# Altium footprint library H_BRIDGE_Driver.PcbLib: 6 footprints
Each footprint in its own frame and in the unit in brackets; x right, y up, seen from the top. Pads: shape width x height; smd on the part's side, far side on the other; paste and mask are expansions set on the pad; w line width, h text height; cw(c..) or ccw(c..) is an arc to the next point about the centre after c.
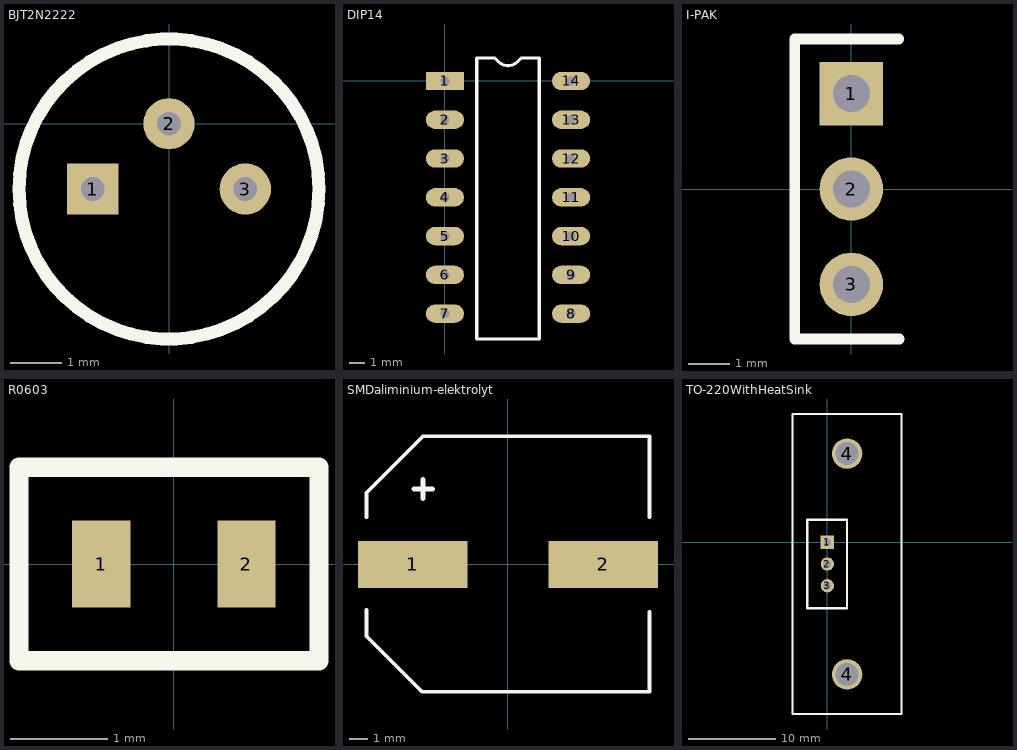
[diagram p0: the footprints below, top view; thin cyan lines are the x and y axes]

## BJT2N2222 [mm]
pads (3):
  rect 1x1 hole 0.46: 1(-1.485,-1.27)
  round 1 hole 0.46: 2(0,0) 3(1.485,-1.27)
Top Overlay:
  circle w0.254: c0,-1.27 r2.92
3D body "User Library-TO-39_2N2904.step": height 6.5, standoff -3, extent -4.485,-5.97 4.515,3.03

## DIP14 [mm]
pads (14):
  rect 2.5x1.2 hole 0.6: 1(0,0)
  oval 2.5x1.2 hole 0.6: 2(0,-2.54) 3(0,-5.08) 4(0,-7.62) 5(0,-10.16) 6(0,-12.7) 7(0,-15.24) 8(8.26,-15.24) 9(8.26,-12.7) 10(8.26,-10.16) 11(8.26,-7.62) 12(8.26,-5.08) 13(8.26,-2.54) 14(8.26,0)
Top Overlay:
  lines w0.2: 2.085,-16.9 3.107,-16.9 5.153,-16.9 6.175,-16.9 6.175,1.5 4.995,1.5 4.765,1.27 cw(c4.13,1.873) 3.495,1.27 3.265,1.5 2.085,1.5 2.085,-16.9
3D body "CircuitWorks-DIP14.step": height 4.19, standoff -2.67, extent 0.3,-17.225 8.174,1.825

## I-PAK [mil]
pads (3):
  rect 60x60 hole 35.04: 1(0,90.16)
  round 60 hole 35.04: 2(0,0) 3(0,-90.16)
Top Overlay:
  lines w10: -53.54,-141.73 -53.54,141.73 44.88,141.73 ; -53.15,-141.73 45.28,-141.73
3D body "User Library-TO-251AA(IPak).step": height 372.44, standoff -154.33, extent -35.43,-129.92 55.12,129.92

## R0603 [mm]
pads (2):
  rect 0.6x0.9 smd: 1(-0.75,0) 2(0.75,0)
Top Overlay:
  lines w0.2: -1.6,-1 -1.6,1 1.5,1 1.5,-1 -1.6,-1
3D body "CircuitWorks-RESISTOR 0603.step": height 0.48, standoff -0.03, extent -0.8,-0.43 0.8,0.43

## SMDaliminium-elektrolyt [mm]
pads (2):
  rect 5.8x2.5 smd: 1(-5.05,0) 2(5.05,0)
Top Overlay:
  lines w0.2: -7.5,-2.4 -7.5,-3.8 -4.55,-6.75 7.5,-6.75 ; -7.5,2.5 -7.5,3.8 -4.5,6.8 -4.4,6.8 7.5,6.8 7.5,2.5 ; 7.5,-6.7 7.5,-2.5
  lines w0.254: -5,4 -4,4 ; -4.5,3.5 -4.5,4.5
3D body "User Library-CC1010.step": height 10.41, standoff 0, extent -5.5,-5.2 5.5,5.2

## TO-220WithHeatSink [mm]
pads (5):
  rect 1.524x1.524 hole 0.88: 1(0,0)
  round 1.524 hole 0.88: 2(0,-2.5) 3(0,-5)
  round 3.5 hole 2.61: 4(2.27,-15.2) 4(2.27,10.2)
Top Overlay:
  lines w0.254: -2.3,2.6 -2.3,-7.6 2.2,-7.6 ; -2.25,2.6 2.25,2.6 2.25,-7.6 ; 8.5,-19.75 -4,-19.75 -4,14.75 8.52,14.75 8.52,-19.75
3D body "CircuitWorks-TO-220HS.step": height 18.54, standoff -3.81, extent -1.1,-7.58 3.472,2.58
3D body "User Library-HS_V7477WC.step": height 25.4, standoff -3.5, extent -4.099,-19.95 8.6,14.95